# Altium footprint library Bitcoiner_EB_Project_V1I1.PcbLib: 38 footprints (part 3 of 3)
Each footprint in its own frame and in the unit in brackets; x right, y up, seen from the top. Pads: shape width x height; smd on the part's side, far side on the other; paste and mask are expansions set on the pad; w line width, h text height; cw(c..) or ccw(c..) is an arc to the next point about the centre after c.
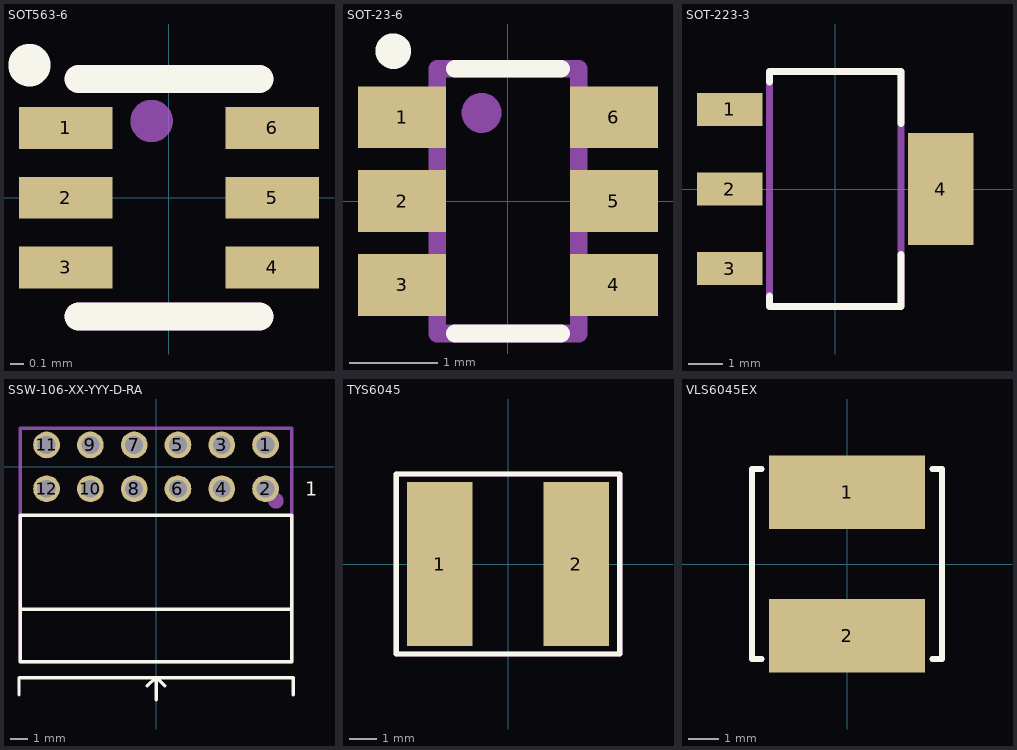
[diagram p2: the footprints below, top view; thin cyan lines are the x and y axes]

## SOT563-6 [mm]
pads (6):
  rect 0.67x0.3 smd: 1(-0.74,0.5) 2(-0.74,0) 3(-0.74,-0.5) 4(0.74,-0.5) 5(0.74,0) 6(0.74,0.5)
Top Overlay:
  circle w0.254: c-1,0.95 r0.025
  lines w0.2: -0.65,-0.85 0.65,-0.85 ; -0.65,0.85 0.65,0.85
Mechanical 29:
  circle w0.254: c-0.125,0.55 r0.025
  lines w0.2: -0.65,-0.85 0.65,-0.85 ; -0.65,0.85 0.65,0.85
  text ".Designator" at -0.75,-0.575 h0.6
3D body "SOT-563.step": height 0.6, standoff 0.01, extent -0.813,-0.8 0.813,0.8

## SOT-23-6 [mm]
pads (6):
  rect 1x0.7 smd: 1(-1.2,0.95) 2(-1.2,0) 3(-1.2,-0.95) 4(1.2,-0.95) 5(1.2,0) 6(1.2,0.95)
Top Overlay:
  circle w0.254: c-1.3,1.7 r0.075
  lines w0.2: -0.6,-1.5 0.6,-1.5 ; -0.6,1.5 0.6,1.5
Mechanical 29:
  circle w0.254: c-0.3,1 r0.1
  lines w0.2: -0.8,-1.5 -0.8,1.5 0.8,1.5 0.8,-1.5 -0.8,-1.5
  text ".Designator" at -0.4,-0.3 h0.6
3D body "SOT-23-6.step": height 1.09, standoff 0, extent -1.2,-1.4 1.226,1.394

## SOT-223-3 [mm]
pads (4):
  rect 1.9x0.95 smd: 1(-3.05,2.3) 2(-3.05,0) 3(-3.05,-2.3)
  rect 1.9x3.25 smd: 4(3.05,0)
Top Overlay:
  lines w0.2: -1.9,-3.1 -1.9,-3.4 1.9,-3.4 1.9,-1.9 ; -1.9,3.1 -1.9,3.4 1.9,3.4 1.9,1.9
Mechanical 29:
  lines w0.2: -1.9,-3.4 1.9,-3.4 1.9,3.4 -1.9,3.4 -1.9,-3.4
  text ".Designator" at 0.333,-1.8 h0.8
3D body "SOT-223-3.stp": height 1.61, standoff -0.06, extent -3.55,-3.25 3.45,3.25

## SSW-106-XX-YYY-D-RA [mm]
pads (12):
  round 1.55 hole 1.04: 1(6.35,1.27) 2(6.35,-1.27) 3(3.81,1.27) 4(3.81,-1.27) 5(1.27,1.27) 6(1.27,-1.27) 7(-1.27,1.27) 8(-1.27,-1.27) 9(-3.81,1.27) 10(-3.81,-1.27) 11(-6.35,1.27) 12(-6.35,-1.27)
Top Overlay:
  lines w0.2: -7.95,-13.23 -7.95,-12.23 7.95,-12.23 7.95,-13.23 ; -7.875,-8.27 7.875,-8.27 ; -0.5,-12.7 -0.03,-12.23 ; 0,-13.5 0,-12.23 ; 0,-12.3 0,-12.23 ; 0.5,-12.7 0.03,-12.23 -0.03,-12.23 ; -0.03,-12.23 0,-12.23 ; -7.875,-11.295 7.875,-11.295 7.875,-2.795 -7.875,-2.795 -7.875,-11.295
  text "1" at 8.65,-1.67 h0.8
Mechanical 29:
  circle w0.5: c6.95,-1.97 r0.2
  lines w0.2: -7.875,-11.3 7.875,-11.3 7.875,2.23 -7.875,2.23 -7.875,-11.3
  text ".Designator" at -3.796,-5.508 h1.52
3D body "SSW-106-02-T-D-RA.stp": height 4.97, standoff -2.51, extent -7.874,-11.309 7.874,1.467

## TYS6045 [mm]
pads (2):
  rect 2.4x6 smd: 1(-2.5,0) 2(2.5,0)
Top Overlay:
  lines w0.2: -4.1,-3.3 -4.1,3.3 4.1,3.3 4.1,-3.3 -4.1,-3.3
Mechanical 1:
  lines w0.2: -4.1,-3.3 4.1,-3.3 4.1,3.3 -4.1,3.3 -4.1,-3.3
Mechanical 29:
  lines w0.2: -4.1,-3.3 -4.1,3.3 4.1,3.3 4.1,-3.3 -4.1,-3.3
  text ".Designator" at -0.574,-1.1 h0.9
3D body "vls6045ex-h.step": height 4.51, standoff 0.01, extent -3.15,-3 3.15,3

## VLS6045EX [mm]
pads (2):
  rect 5.1x2.4 smd: 1(0,2.35) 2(0,-2.35)
Top Overlay:
  lines w0.2: -2.8,-3.1 -3.1,-3.1 -3.1,3.1 -2.8,3.1 ; 2.8,-3.1 3.1,-3.1 3.1,3.1 2.8,3.1
Mechanical 29:
  lines w0.2: -2.8,-3.1 -3.1,-3.1 -3.1,3.1 -2.8,3.1 ; 2.8,-3.1 3.1,-3.1 3.1,3.1 2.8,3.1
  text ".Designator" at -1.7,-0.3 h0.6
3D body "files.step": height 4.51, standoff 0.01, extent -3,-3 3,3